# Altium integrated library LAN8742.IntLib: 1 symbol
Pins are listed as number, name and electrical type; pins without a type are passive.

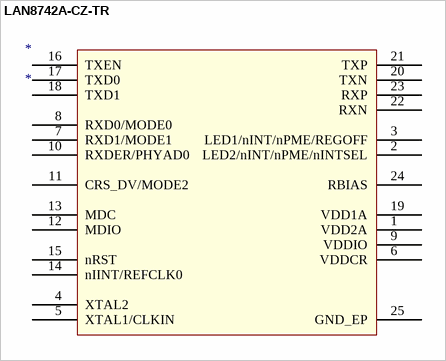
[diagram p0: symbol LAN8742A-CZ-TR]

## LAN8742A-CZ-TR
designator *
footprint LAN8742A
pins: 1 VDD2A, 2 LED2/nINT/nPME/nINTSEL, 3 LED1/nINT/nPME/REGOFF, 4 XTAL2, 5 XTAL1/CLKIN, 6 VDDCR, 7 RXD1/MODE1, 8 RXD0/MODE0, 9 VDDIO, 10 RXDER/PHYAD0, 11 CRS_DV/MODE2, 12 MDIO, 13 MDC, 14 nIINT/REFCLK0, 15 nRST, 16 TXEN, 17 TXD0, 18 TXD1, 19 VDD1A, 20 TXN, 21 TXP, 22 RXN, 23 RXP, 24 RBIAS, 25 GND_EP